# EAGLE library part AP8801 (library AP8801)
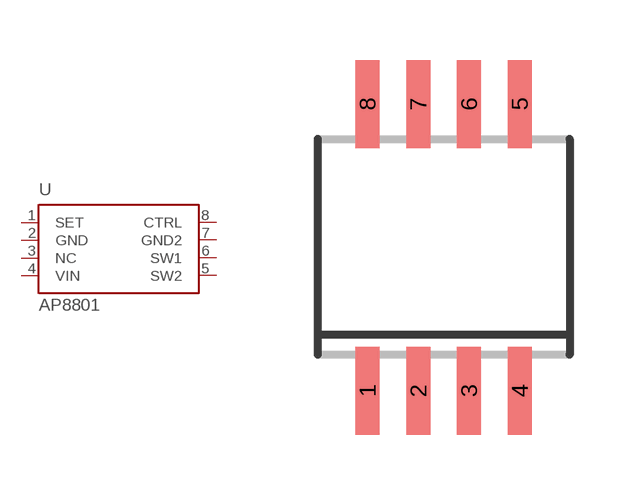
[diagram p119: symbol with the pads of SOP-08; footprint SOP-08]

Designator prefix U

## AP8801  [SOP-08]
1  SET  in
2  GND  pwr
3  NC  nc
4  VIN  sup
5  SW2  oc
6  SW1  oc
7  GND2  pwr
8  CTRL  pas

## Footprint SOP-08 (pad centres in mm)
PS (R-PDSO-G8) Source: http://focus.ti.com .. sn65176b.pdf
smd 0.6 x 2.2: 1 -1.905,-3.6; 2 -0.635,-3.6; 3 0.635,-3.6; 4 1.905,-3.6; 5 1.905,3.575; 6 0.635,3.575; 7 -0.635,3.575; 8 -1.905,3.575